# EAGLE library part XC2C32A (library X893)
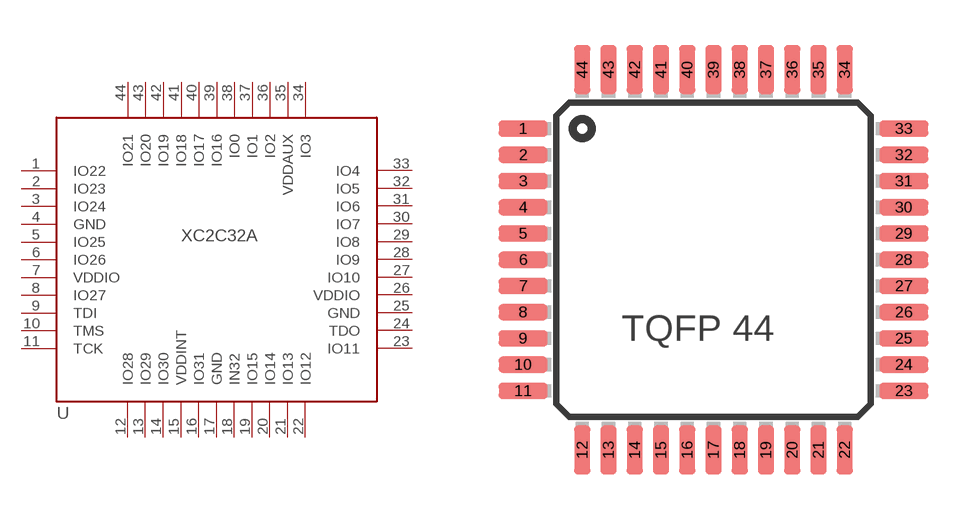
[diagram p102: symbol with the pads of TQFP44; footprint TQFP44]

Designator prefix U

## XC2C32A-VQ44  [TQFP44]
1  IO22
2  IO23
3  IO24
4  GND  sup
5  IO25
6  IO26
7  VDDIO
8  IO27
9  TDI
10  TMS
11  TCK
12  IO28
13  IO29
14  IO30
15  VDDINT
16  IO31
17  GND  sup
18  IN32
19  IO15
20  IO14
21  IO13
22  IO12
23  IO11
24  TDO
25  GND  sup
26  VDDIO
27  IO10
28  IO9
29  IO8
30  IO7
31  IO6
32  IO5
33  IO4
34  IO3
35  VDDAUX
36  IO2
37  IO1
38  IO0
39  IO16
40  IO17
41  IO18
42  IO19
43  IO20
44  IO21

## Footprint TQFP44 (pad centres in mm)
Thin Plasic Quad Flat Package
smd 1.5 x 0.5: 1 -5.8,4; 2 -5.8,3.2; 3 -5.8,2.4; 4 -5.8,1.6; 5 -5.8,0.8; 6 -5.8,0; 7 -5.8,-0.8; 8 -5.8,-1.6; 9 -5.8,-2.4; 10 -5.8,-3.2; 11 -5.8,-4; 23 5.8,-4; 24 5.8,-3.2; 25 5.8,-2.4; 26 5.8,-1.6; 27 5.8,-0.8; 28 5.8,0; 29 5.8,0.8; 30 5.8,1.6; 31 5.8,2.4; 32 5.8,3.2; 33 5.8,4
smd 0.5 x 1.5: 12 -4,-5.8; 13 -3.2,-5.8; 14 -2.4,-5.8; 15 -1.6,-5.8; 16 -0.8,-5.8; 17 0,-5.8; 18 0.8,-5.8; 19 1.6,-5.8; 20 2.4,-5.8; 21 3.2,-5.8; 22 4,-5.8; 34 4,5.8; 35 3.2,5.8; 36 2.4,5.8; 37 1.6,5.8; 38 0.8,5.8; 39 0,5.8; 40 -0.8,5.8; 41 -1.6,5.8; 42 -2.4,5.8; 43 -3.2,5.8; 44 -4,5.8